# EAGLE library part DERFSAM3-23M10-2 (library deRFmodules)
deRFsam3 IEEE 802.15.4 Low Power Wireless Radio Module Microcontroller: Atmel ATSAM3S4A Transceiver: Atmel AT86RF232 Manufacturer: dresden elektronik ingenieurtechnik gmbh Website: http://www.dresden-elektronik.de
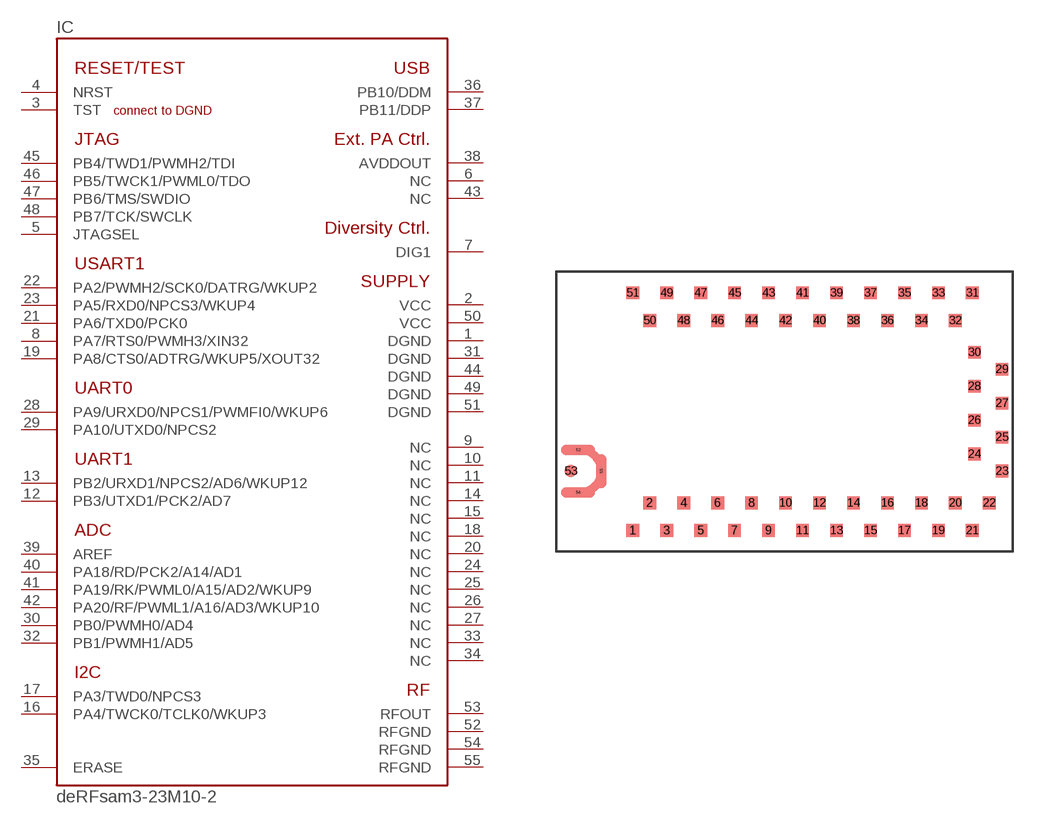
[diagram p9: symbol with the pads of S-M10; footprint S-M10]

Designator prefix IC

## DERFSAM3-23M10-2  [S-M10]
1  DGND  sup
2  VCC  sup
3  TST  in
4  NRST
5  JTAGSEL  in
6  NC  nc
7  DIG1  out
8  PA7/RTS0/PWMH3/XIN32
9  NC  nc
10  NC  nc
11  NC  nc
12  PB3/UTXD1/PCK2/AD7
13  PB2/URXD1/NPCS2/AD6/WKUP12
14  NC  nc
15  NC  nc
16  PA4/TWCK0/TCLK0/WKUP3
17  PA3/TWD0/NPCS3
18  NC  nc
19  PA8/CTS0/ADTRG/WKUP5/XOUT32
20  NC  nc
21  PA6/TXD0/PCK0
22  PA2/PWMH2/SCK0/DATRG/WKUP2
23  PA5/RXD0/NPCS3/WKUP4
24  NC  nc
25  NC  nc
26  NC  nc
27  NC  nc
28  PA9/URXD0/NPCS1/PWMFI0/WKUP6
29  PA10/UTXD0/NPCS2
30  PB0/PWMH0/AD4
31  DGND  sup
32  PB1/PWMH1/AD5
33  NC  nc
34  NC  nc
35  ERASE  in
36  PB10/DDM
37  PB11/DDP
38  AVDDOUT  out
39  AREF
40  PA18/RD/PCK2/A14/AD1
41  PA19/RK/PWML0/A15/AD2/WKUP9
42  PA20/RF/PWML1/A16/AD3/WKUP10
43  NC  nc
44  DGND  sup
45  PB4/TWD1/PWMH2/TDI
46  PB5/TWCK1/PWML0/TDO
47  PB6/TMS/SWDIO
48  PB7/TCK/SWCLK
49  DGND  sup
50  VCC  sup
51  DGND  sup
52  RFGND  sup
53  RFOUT  out
54  RFGND  sup
55  RFGND  sup

## Footprint S-M10 (pad centres in mm)
55pin LGA package, pitch 0.8mm
smd 0.6 x 0.6: 1 -7.15,-5.6; 2 -6.35,-4.3; 3 -5.55,-5.6; 4 -4.75,-4.3; 5 -3.95,-5.6; 6 -3.15,-4.3; 7 -2.35,-5.6; 8 -1.55,-4.3; 9 -0.75,-5.6; 10 0.05,-4.3; 11 0.85,-5.6; 12 1.65,-4.3; 13 2.45,-5.6; 14 3.25,-4.3; 15 4.05,-5.6; 16 4.85,-4.3; 17 5.65,-5.6; 18 6.45,-4.3; 19 7.25,-5.6; 20 8.05,-4.3; 21 8.85,-5.6; 22 9.65,-4.3; 23 10.25,-2.8; 24 8.95,-2; 25 10.25,-1.2; 26 8.95,-0.4; 27 10.25,0.4; 28 8.95,1.2; 29 10.25,2; 30 8.95,2.8; 31 8.85,5.6; 32 8.05,4.3; 33 7.25,5.6; 34 6.45,4.3; 35 5.65,5.6; 36 4.85,4.3; 37 4.05,5.6; 38 3.25,4.3; 39 2.45,5.6; 40 1.65,4.3; 41 0.85,5.6; 42 0.05,4.3; 43 -0.75,5.6; 44 -1.55,4.3; 45 -2.35,5.6; 46 -3.15,4.3; 47 -3.95,5.6; 48 -4.75,4.3; 49 -5.55,5.6; 50 -6.35,4.3; 51 -7.15,5.6; 53 -10.065,-2.8
smd 1.3 x 0.2: 52 -9.725,-1.8; 54 -9.725,-3.8
smd 0.2 x 1.3: 55 -8.625,-2.8